# EAGLE library part STEREOSW3GND (library Audio Jacks)
1/4" stereo jack, switched, with chassis ground connection
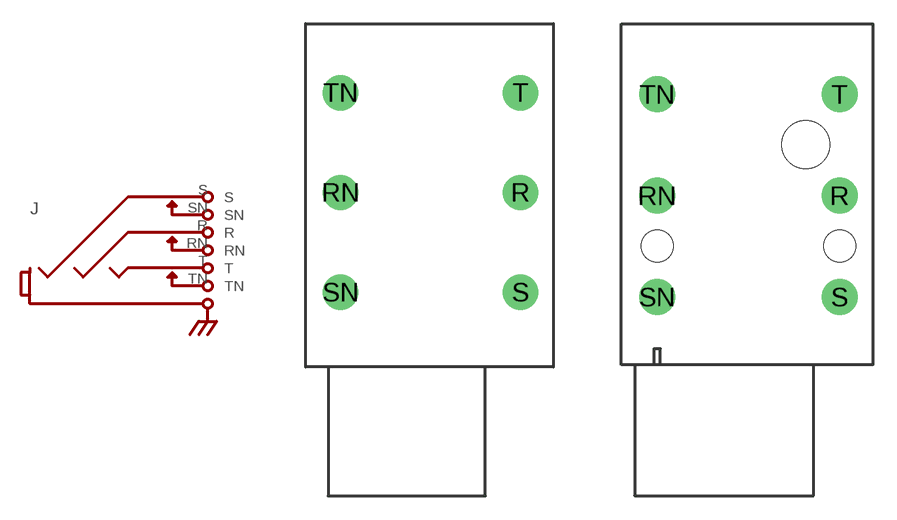
[diagram p0: symbol with the pads of NEUTRIK-NRJ6HM-1; footprints NEUTRIK-NRJ6HM-1, NEUTRIK-NRJ6HF-1]

Designator prefix J

## STEREOSW3GNDMETAL  [NEUTRIK-NRJ6HM-1]
R  R
RN  RN
S  S
SN  SN
T  T
TN  TN

## STEREOSW3GND  [NEUTRIK-NRJ6HF-1]
Pads as for NEUTRIK-NRJ6HM-1

## Footprint NEUTRIK-NRJ6HM-1 (pad centres in mm)
1/4" stereo jack, switched, metal nose with efficient chassis ground connection
drill 1.5 round: R 7.23,11.1; RN -4.2,11.1; S 7.23,4.75; SN -4.2,4.75; T 7.23,17.45; TN -4.2,17.45

## Footprint NEUTRIK-NRJ6HF-1 (pad centres in mm)
1/4" stereo jack, switched, fully threaded nose with chassis ground connection
drill 1.5 round: R 7.23,10.6; RN -4.2,10.6; S 7.23,4.25; SN -4.2,4.25; T 7.23,16.95; TN -4.2,16.95
hole 3 at 5.1,13.8
hole 2 at 7.23,7.45
hole 2 at -4.2,7.45